# Altium footprint library Table Clock.PcbLib: 28 footprints (part 1 of 2)
Each footprint in its own frame and in the unit in brackets; x right, y up, seen from the top. Pads: shape width x height; smd on the part's side, far side on the other; paste and mask are expansions set on the pad; w line width, h text height; cw(c..) or ccw(c..) is an arc to the next point about the centre after c.
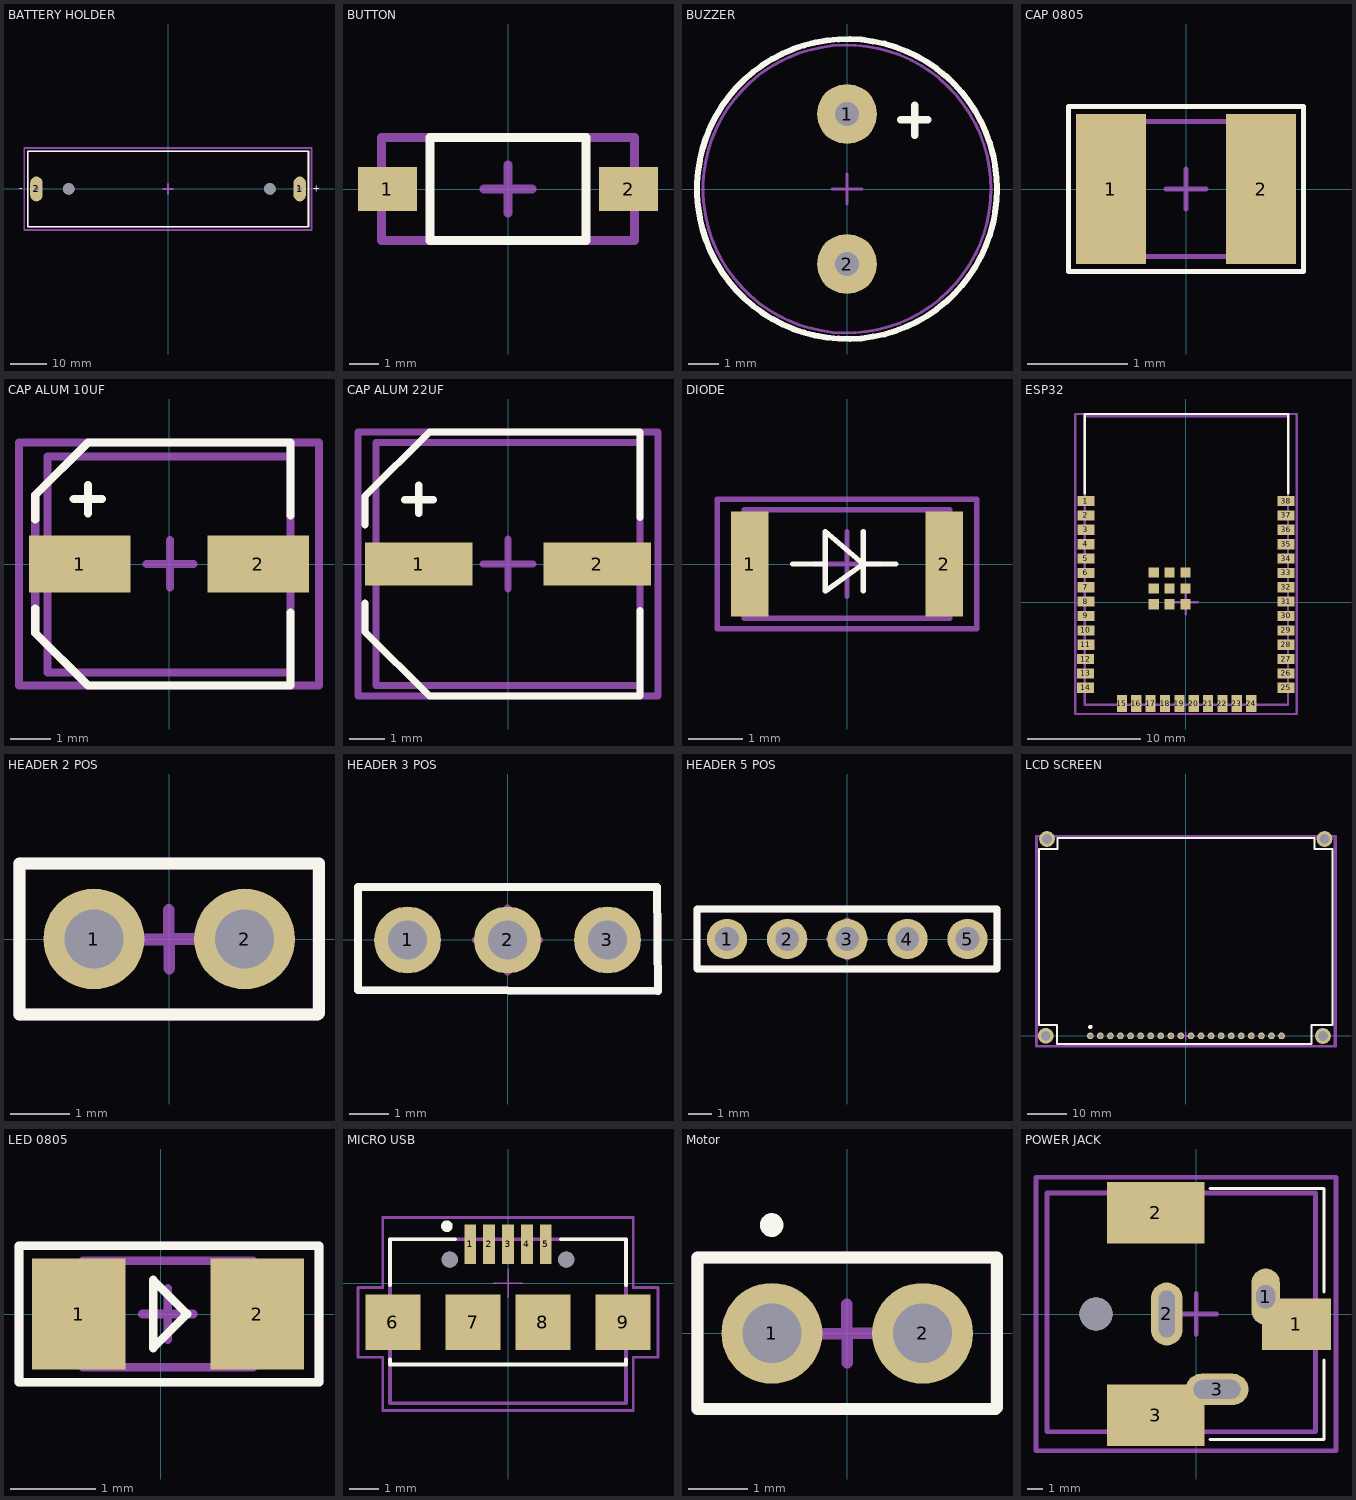
[diagram p0: the footprints below, top view; thin cyan lines are the x and y axes]

## BATTERY HOLDER [mm]
pads (4):
  oval 3.44x6.88 hole 1.38 square: 1(36.45,0) 2(-36.45,0)
  round 3.2 hole 3.2 unplated: ""(-27.5,0) ""(28.2,0)
Top Overlay:
  lines w0.5: -38.85,-10.45 38.85,-10.45 38.85,10.45 -38.85,10.45 -38.85,-10.45
  text "-" at -41.275,-0.635 h1.78
  text "+" at 40.005,-0.762 h1.78
Top 3D Body:
  lines w0.4: -38.85,-10.45 -38.85,10.45 38.85,10.45 38.85,-10.45 -38.85,-10.45
Top Component Center:
  lines w0.5: -1.4,0 0,0 ; 0,-1.4 0,0 ; 0,1.4 0,0 ; 1.4,0 0,0 ; -39.825,-11.325 39.675,-11.325 39.675,11.3 -39.825,11.3 -39.825,-11.325
Top Designator:
  lines w0.5: -39.825,-11.325 -39.825,11.3 39.675,11.3 39.675,-11.325 -39.825,-11.325
  text ".Designator" at -5.575,-4.918 h10
3D body "BH-18650-PC--3DModel-STEP-56544.STEP": height 21.31, standoff -3.3, extent -38.85,-10.45 38.85,10.45

## BUTTON [mm]
pads (2):
  rect 2x1.5 smd mask+0.05: 1(-4.1,0) 2(4.1,0)
Top Overlay:
  lines w0.3: -2.65,-1.75 -2.65,1.75 2.65,1.75 2.65,-1.75 -2.65,-1.75
Top 3D Body:
  lines w0.3: -4.3,-1.75 4.3,-1.75 4.3,1.75 -4.3,1.75 -4.3,-1.75
Top Component Center:
  lines w0.3: -0.825,0 0,0 ; 0,-0.825 0,0 ; 0,0.825 0,0 ; 0.825,0 0,0 ; -4.3,-1.75 4.3,-1.75 4.3,1.75 -4.3,1.75 -4.3,-1.75
Top Designator:
  lines w0.3: -4.3,-1.75 -4.3,1.75 4.3,1.75 4.3,-1.75 -4.3,-1.75
  text ".Designator" at 0.025,-0.675 h1.5
3D body "PTS636SM43SMTRLFS.stp": height 4.3, standoff -0.03, extent -4.3,-1.75 4.3,1.75

## BUZZER [mm]
pads (2):
  round 2 hole 0.8 mask+0.05: 1(0,2.5) 2(0,-2.5)
Top Overlay:
  circle w0.2: c0,0 r5
  lines w0.25: 1.8,2.3 2.7,2.3 ; 2.258,1.8 2.258,2.8
Bottom Designator (Mech7):
  circle w0.1: c0,0 r4.8
  lines w0.1: -0.5,0 0.5,0 0,0 0,-0.5 0,0.5
Bottom 3D Body (Mech8):
  circle w0.1: c0,0 r4.8
  text ".Designator" at -1.746,-0.038 h1.52
3D body: height 5.1, standoff 0.1, extent -4.838,-4.784 4.762,4.816
3D body: height 0.15, standoff -5.35, extent -0.305,2.193 0.295,2.793
3D body: height 1.65, standoff -3.85, extent -0.295,-2.793 0.305,-2.193
3D body: height 5.16, standoff 5.11, extent -4.3,-4.3 4.3,4.3
3D body: height 5.16, standoff 5.11, extent -2,2.3 2,6.3

## CAP 0805 [mm]
pads (2):
  rect 0.7x1.5 smd mask+0.05: 1(-0.75,0) 2(0.75,0)
Top Overlay:
  lines w0.05: -1.175,-0.825 -1.175,0.825 1.175,0.825 1.175,-0.825 -1.175,-0.825
Top 3D Body:
  lines w0.05: -1,-0.675 -1,0.675 1,0.675 1,-0.675 -1,-0.675
Top Component Center:
  lines w0.05: -0.2,0 0,0 ; 0,-0.2 0,0 ; 0,0.2 0,0 ; 0.2,0 0,0 ; -1.175,-0.825 -1.175,0.825 1.175,0.825 1.175,-0.825 -1.175,-0.825
Top Designator:
  lines w0.05: -1.175,-0.825 -1.175,0.825 1.175,0.825 1.175,-0.825 -1.175,-0.825
  text ".Designator" at -0.17,-0.203 h0.5
3D body "CL21A475KAQNNNE.step": height 1.22, standoff -0.03, extent -1,-0.675 1,0.675

## CAP ALUM 10UF [mm]
pads (2):
  rect 2.5x1.4 smd mask+0.05: 1(-2.2,0) 2(2.2,0)
Top Overlay:
  lines w0.2: -3.3,-1.1 -3.3,-1.7 -2,-3 -1.2,-3 3,-3 3,-1.2 ; -3.3,1.1 -3.3,1.7 -2,3 -1.2,3 3,3 3,1.2 ; -2.35,1.6 -1.65,1.6 ; -2,1.25 -2,1.95
Top 3D Body:
  lines w0.2: -3,-2.675 3,-2.675 3,2.65 -3,2.65 -3,-2.675
Top Component Center:
  lines w0.2: -0.553,0 0.047,0 ; 0,0 0.6,0 ; 0.023,-0.577 0.023,0.023 ; 0.023,-0.011 0.023,0.589 ; -3.7,-3 -3.7,3 3.7,3 3.7,-3 -3.7,-3
Top Designator:
  lines w0.2: -3.3,-1.7 -2,-3 -1.2,-3 3,-3 3,1.2 3,3 -1.2,3 -2,3 -3.3,1.7 -3.3,1.1 -3.3,-1.7
  text ".Designator" at -0.2,-0.367 h1
3D body "Download_STP_87510535900x_rev1.stp": height 5.8, standoff 0, extent -3,-2.65 3,2.65

## CAP ALUM 22UF [mm]
pads (2):
  rect 3x1.2 smd mask+0.05: 1(-2.5,0) 2(2.5,0)
Top Overlay:
  lines w0.2: -4,-1.1 -4,-1.9 -2.2,-3.7 3.7,-3.7 3.7,-1.3 ; -4,1.1 -4,1.9 -2.2,3.7 3.7,3.7 3.7,1.3 ; -2.89,1.8 -2.09,1.8 ; -2.5,1.417 -2.5,2.217
Top 3D Body:
  lines w0.2: -3.7,-3.4 3.7,-3.4 3.7,3.4 -3.7,3.4 -3.7,-3.4
Top Component Center:
  lines w0.2: -0.7,0 0,0 ; 0,-0.7 0,0 ; 0,0.7 0,0 ; 0.7,0 0,0 ; -4.2,-3.7 -4.2,3.7 4.2,3.7 4.2,-3.7 -4.2,-3.7
Top Designator:
  lines w0.2: -4,-1.1 -4,-1.9 -2.2,-3.7 3.7,-3.7 3.7,3.7 -2.2,3.7 -4,1.9 -4,1.1
  text ".Designator" at -1,-0.167 h1
3D body "A766EB226M1DLAE060.step": height 6, standoff 0, extent -3.75,-3.4 3.75,3.4

## DIODE [mm]
pads (2):
  rect 0.7x1.95 smd mask+0.102: 1(-1.8,0) 2(1.8,0)
Top Overlay:
  lines w0.1: -1,0 -0.4,0 -0.4,0.6 ; 0.9,0 0.3,0 ; -0.4,0.6 -0.4,-0.5 0.3,0 ; -0.4,0.6 0.3,0 ; 0.3,0 0.3,0.6 0.3,0 ; 0.3,0 0.3,-0.5 0.3,0
Top 3D Body:
  lines w0.1: -1.9,-1 -1.9,1 1.9,1 1.9,-1 -1.9,-1
Top Component Center:
  lines w0.1: -0.6,0 0,0 ; 0,-0.6 0,0 ; 0,0.6 0,0 ; 0.6,0 0,0 ; -2.4,-1.2 -2.4,1.2 2.4,1.2 2.4,-1.2 -2.4,-1.2
Top Designator:
  lines w0.1: -2.4,-1.2 2.4,-1.2 2.4,1.2 -2.4,1.2 -2.4,-1.2
  text ".Designator" at -0.2,-0.633 h1.4
3D body "CR_SOD-123FL_SME.step": height 1.4, standoff 0, extent -1.93,-0.978 1.93,0.978

## ESP32 [mm]
pads (47):
  rect 1.5x0.9 smd mask+0.05: 1(-8.834,8.951) 2(-8.834,7.681) 3(-8.834,6.411) 4(-8.834,5.141) 5(-8.834,3.871) 6(-8.834,2.601) 7(-8.834,1.331) 8(-8.834,0.061) 9(-8.834,-1.209) 10(-8.834,-2.479) 11(-8.834,-3.749) 12(-8.859,-5.019) 13(-8.859,-6.289) 14(-8.859,-7.559) 25(8.859,-7.559) 26(8.859,-6.289) 27(8.859,-5.019) 28(8.859,-3.749) 29(8.859,-2.479) 30(8.859,-1.209) 31(8.859,0.061) 32(8.859,1.331) 33(8.859,2.601) 34(8.859,3.871) 35(8.859,5.141) 36(8.859,6.411) 37(8.859,7.681) 38(8.859,8.951)
  rect 0.9x1.5 smd mask+0.05: 15(-5.649,-8.951) 16(-4.379,-8.951) 17(-3.109,-8.951) 18(-1.839,-8.951) 19(-0.569,-8.951) 20(0.701,-8.951) 21(1.971,-8.951) 22(3.241,-8.951) 23(4.511,-8.951) 24(5.781,-8.951)
  rect 0.9x0.9 smd mask+0.05: ""(-2.839,-0.176) ""(-2.839,1.224) ""(-2.839,2.624) ""(-1.439,-0.176) ""(-1.439,1.224) ""(-1.439,2.624) ""(-0.039,-0.176) ""(-0.039,1.224) ""(-0.039,2.624)
Top Overlay:
  lines w0.2: -8.925,9.625 -8.925,16.65 1.075,16.65 9.05,16.65 9.05,9.625
Top 3D Body:
  lines w0.2: -8.934,-9.049 -8.934,16.451 9.041,16.451 9.041,-9.049 -8.934,-9.049
Top Component Center:
  lines w0.2: -1.05,0 0,0 ; 0,-1.05 0,0 ; 0,1.05 0,0 ; 1.05,0 0,0 ; -9.784,-9.874 -9.784,16.651 9.816,16.651 9.816,-9.874 -9.784,-9.874
Top Designator:
  lines w0.2: -9.784,-9.874 -9.784,16.651 9.816,16.651 9.816,-9.874 -9.784,-9.874
  text ".Designator" at -3.225,0.766 h5
3D body "ESP32-WROOM-32E-H4.STEP": height 3.25, standoff 0, extent -8.941,-9.059 9.059,16.441

## HEADER 2 POS [mm]
pads (2):
  round 1.7 hole 1 mask+0.05: 1(-1.27,0) 2(1.27,0)
Top Overlay:
  lines w0.2: -2.525,-1.275 -2.525,1.275 2.525,1.275 2.525,-1.25 2.5,-1.275 -2.525,-1.275
Top 3D Body:
  lines w0.2: -2.525,-1.275 2.5,-1.275 2.525,-1.25 2.525,1.275 -2.525,1.275 -2.525,-1.275
Top Component Center:
  lines w0.2: -0.49,-0.008 0.01,-0.008 ; -0.008,-0.01 -0.008,0.49 ; 0,-0.498 0,0.002 ; 0,0 0.5,0 ; -2.533,-1.275 -2.533,1.275 2.517,1.275 2.517,-1.25 2.492,-1.275 -2.533,-1.275
Top Designator:
  lines w0.2: -2.525,-1.275 -2.525,1.275 2.525,1.275 2.525,-1.25 2.5,-1.275 -2.525,-1.275
  text ".Designator" at -0.225,-0.467 h1
3D body "61300211121_Download_STP_61300211121_rev1.stp": height 8.57, standoff -2.97, extent -2.54,-1.27 2.54,1.27

## HEADER 3 POS [mm]
pads (3):
  round 1.7 hole 1 mask+0.05: 1(-2.54,0) 2(0,0) 3(2.54,0)
Top Overlay:
  lines w0.2: -3.8,-1.275 -3.8,1.35 3.8,1.35 3.825,-1.3 -3.8,-1.275
Top 3D Body:
  lines w0.2: -3.8,-1.275 3.825,-1.3 3.8,1.35 -3.8,1.35 -3.8,-1.275
Top Component Center:
  lines w0.2: -0.8,0 0,0 ; 0,-0.8 0,0 ; 0,0.8 0,0 ; 0.8,0 0,0 ; -3.8,-1.275 -3.8,1.35 3.8,1.35 3.825,-1.3 -3.8,-1.275
Top Designator:
  lines w0.2: -3.8,-1.275 -3.8,1.35 3.8,1.35 3.825,-1.3 -3.8,-1.275
  text ".Designator" at 1.025,-0.442 h1
3D body "CONN_M20-99903XX_HRW.step": height 8.74, standoff -5.08, extent -3.81,-1.292 3.81,1.35

## HEADER 5 POS [mm]
pads (5):
  round 1.7 hole 1 mask+0.05: 1(-5.08,0) 2(-2.54,0) 3(0,0) 4(2.54,0) 5(5.08,0)
Top Overlay:
  lines w0.3: -6.35,-1.275 6.325,-1.275 6.325,1.275 -6.35,1.275 -6.35,-1.275
Top 3D Body:
  lines w0.3: -6.35,-1.275 -6.35,1.275 6.325,1.275 6.325,-1.275 -6.35,-1.275
Top Component Center:
  lines w0.3: -0.75,0 0,0 ; 0,-0.75 0,0 ; 0,0.75 0,0 ; 0.75,0 0,0 ; -6.35,-1.275 -6.35,1.275 6.325,1.275 6.325,-1.275 -6.35,-1.275
Top Designator:
  lines w0.3: -6.35,-1.275 6.325,-1.275 6.325,1.275 -6.35,1.275 -6.35,-1.275
  text ".Designator" at 1.275,-0.392 h1
3D body "Download_STP_61300511121_rev1.stp": height 8.47, standoff -3.07, extent -6.35,-1.27 6.35,1.27

## LCD SCREEN [mm]
pads (24):
  round 1.7 hole 1 mask+0.05: 1(-24.13,0) 2(-21.59,0) 3(-19.05,0) 4(-16.51,0) 5(-13.97,0) 6(-11.43,0) 7(-8.89,0) 8(-6.35,0) 9(-3.81,0) 10(-1.27,0) 11(1.27,0) 12(3.81,0) 13(6.35,0) 14(8.89,0) 15(11.43,0) 16(13.97,0) 17(16.51,0) 18(19.05,0) 19(21.59,0) 20(24.13,0)
  round 4 hole 2.5 mask+0.05: ""(-35.375,0.025) ""(-35.05,49.675) ""(34.575,-0.025) ""(34.975,49.675)
Top Overlay:
  circle w0.6: c-24.125,2.25 r0.25
  lines w0.5: -37.075,2.775 -32.475,2.775 -32.475,-2.075 31.65,-2.075 31.65,2.725 37.025,2.725 37.025,47.15 32.4,47.15 32.4,49.975 -32.375,49.975 -32.375,47.125 -37.075,47.125 -37.075,2.775
Top 3D Body:
  lines w0.4: -37.525,-2.5 -37.525,50.2 37.475,50.2 37.475,-2.5 -37.525,-2.5
Top Component Center:
  lines w0.4: -1,0 0,0 ; 0,-1 0,0 ; 0,1 0,0 ; 1,0 0,0 ; -37.825,-2.8 -37.825,50.45 37.875,50.45 37.875,-2.8 -37.825,-2.8
Top Designator:
  lines w0.4: -37.825,-2.8 37.875,-2.8 37.875,50.45 -37.825,50.45 -37.825,-2.8
  text ".Designator" at -1.575,16.741 h8
3D body "NHD-12864WG.STEP": height 8.9, standoff 0.8, extent -37.53,-2.525 37.47,50.175

## LED 0805 [mm]
pads (2):
  rect 1.1x1.3 smd mask+0.05: 1(-0.966,0) 2(1.134,0)
Top Overlay:
  lines w0.1: -1.666,-0.8 1.859,-0.8 1.859,0.8 -1.666,0.8 -1.666,-0.8 ; -0.091,-0.4 0.309,0 -0.091,0.4 -0.091,-0.4
Top 3D Body:
  lines w0.1: -0.916,-0.625 -0.916,0.625 1.084,0.625 1.084,-0.625 -0.916,-0.625
Top Component Center:
  lines w0.1: -0.216,0 0.084,0 ; 0.084,-0.3 0.084,0 ; 0.084,0.3 0.084,0 ; 0.384,0 0.084,0 ; -1.666,-0.8 1.859,-0.8 1.859,0.8 -1.666,0.8 -1.666,-0.8
Top Designator:
  lines w0.1: -1.666,-0.8 1.859,-0.8 1.859,0.8 -1.666,0.8 -1.666,-0.8
  text ".Designator" at -0.541,-0.517 h1
3D body "Download_STP_WL-SMCW-0805_rev1.stp": height 0.7, standoff 0, extent -0.916,-0.625 1.084,0.625

## MICRO USB [mm]
pads (11):
  rect 0.4x1.35 smd: 1(-1.3,1.338) 2(-0.65,1.338) 3(0,1.338) 4(0.65,1.338) 5(1.3,1.338)
  rect 1.9x1.9 smd: 6(-3.95,-1.338) 7(-1.2,-1.338) 8(1.2,-1.338) 9(3.95,-1.338)
  round 0.55 hole 0.55 unplated: ""(-2,0.813) ""(2,0.813)
Top Overlay:
  circle w0.2: c-2.1,1.963 r0.1
  lines w0.127: -4.05,-2.608 -4.05,-2.788 4.05,-2.788 4.05,-2.608 ; -4.05,-0.068 -4.05,1.512 -1.82,1.512 ; 1.82,1.512 4.05,1.512 4.05,-0.068
Top 3D Body:
  lines w0.127: -4.05,-4.118 -4.05,-2.788 -4.05,1.512 4.05,1.512 4.05,-4.118 -4.05,-4.118
Top Component Center:
  lines w0.05: -0.5,0 0,0 ; 0,-0.5 0,0 ; 0,0.5 0,0 ; 0.5,0 0,0
  lines w0.1: 5.15,-2.538 4.3,-2.538 4.3,-4.367 -4.3,-4.367 -4.3,-2.538 -5.15,-2.538 -5.15,-0.138 -4.3,-0.138 -4.3,2.262 4.3,2.262 4.3,-0.138 5.15,-0.138
Top Designator:
  lines w0.1: -5.15,-2.538 -4.3,-2.538 -4.3,-4.367 4.3,-4.367 4.3,-2.538 5.15,-2.538 5.15,-0.138 4.3,-0.138 4.3,2.262 -4.3,2.262 -4.3,-0.138 -5.15,-0.138 -5.15,-2.538
  text ".Designator" at 0.05,-1.554 h1
3D body "step_temp.STEP": height 2.65, standoff -0.6, extent -4.05,-4.168 4.05,1.475

## Motor [mm]
pads (2):
  round 1.7 hole 1 mask+0.05: 1(-1.27,0) 2(1.27,0)
Top Overlay:
  circle w0.2: c-1.275,1.825 r0.1
  lines w0.2: -2.525,-1.275 2.5,-1.275 2.525,-1.25 2.525,1.275 -2.525,1.275 -2.525,-1.275
Top 3D Body:
  lines w0.2: -2.525,-1.275 -2.525,1.275 2.525,1.275 2.525,-1.25 2.5,-1.275 -2.525,-1.275
Top Component Center:
  lines w0.2: -0.49,-0.008 0.01,-0.008 ; -0.008,-0.01 -0.008,0.49 ; 0,-0.498 0,0.002 ; 0,0 0.5,0 ; -2.533,-1.275 2.492,-1.275 2.517,-1.25 2.517,1.275 -2.533,1.275 -2.533,-1.275
Top Designator:
  lines w0.2: -2.525,-1.275 2.5,-1.275 2.525,-1.25 2.525,1.275 -2.525,1.275 -2.525,-1.275
  text ".Designator" at -0.225,-0.467 h1
3D body "61300211121_Download_STP_61300211121_rev1.stp": height 8.57, standoff -2.97, extent -2.54,-1.27 2.54,1.27

## POWER JACK [mm]
pads (7):
  oval 1.8x3.6 hole 1.2 slot 1.5 at 90 deg: 1(4.425,1.1)
  rect 4.4x3.3 smd: 1(6.375,-0.65)
  rect 6.2x3.9 smd: 2(-2.575,6.45) 3(-2.575,-6.45)
  oval 2x4 hole 1 slot 3 at 90 deg: 2(-1.875,0)
  oval 4x2 hole 1.2 slot 3 at 0 deg: 3(1.325,-4.8)
  round 2.1 hole 2.1 unplated: ""(-6.375,0)
Top Overlay:
  lines w0.2: 0.889,-8.001 8.128,-8.001 8.128,-2.921 ; 0.889,8.001 8.128,8.001 8.128,1.397
Top 3D Body:
  lines w0.3: -9.5,-7.5 -9.5,7.7 7.6,7.7 7.6,-7.5 -9.5,-7.5
Top Component Center:
  lines w0.3: -1.3,0 0,0 ; 0,-1.3 0,0 ; 0,1.3 0,0 ; 1.3,0 0,0 ; -10.2,-8.7 -10.2,8.7 8.9,8.7 8.9,-8.7 -10.2,-8.7
Top Designator:
  lines w0.3: -10.2,-8.7 8.9,-8.7 8.9,8.7 -10.2,8.7 -10.2,-8.7
  text ".Designator" at -1,-2.1 h3
3D body "PJ-037AH-SMT-TR.stp": height 11, standoff -3.4, extent -9.541,-7.529 7.559,7.671